# Altium footprint library 2x5.08_Terminal_Block.PcbLib: 1 footprints
Each footprint in its own frame and in the unit in brackets; x right, y up, seen from the top. Pads: shape width x height; smd on the part's side, far side on the other; paste and mask are expansions set on the pad; w line width, h text height; cw(c..) or ccw(c..) is an arc to the next point about the centre after c.
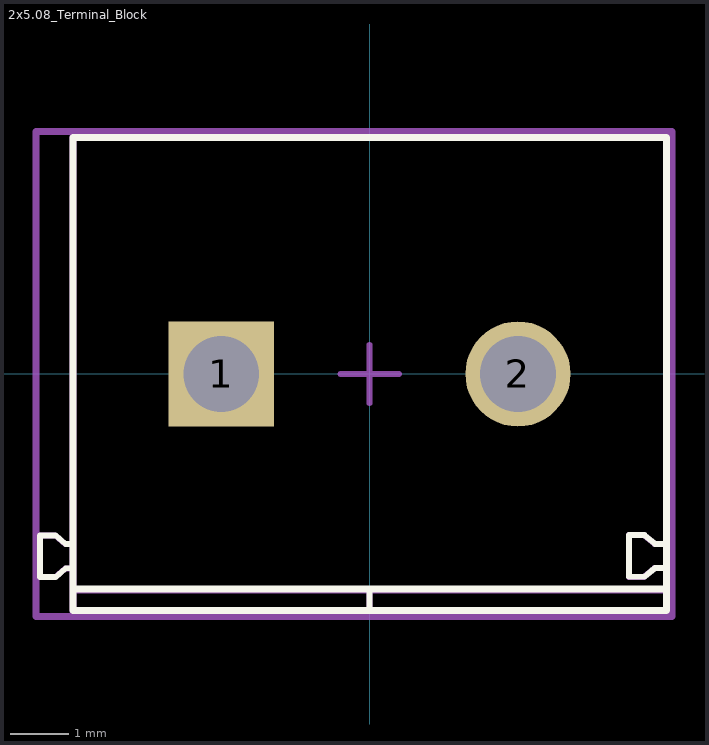
[diagram p0: the footprint, top view; thin cyan lines are the x and y axes]

## 2x5.08_Terminal_Block [mm]
pads (2):
  rect 1.8x1.8 hole 1.3: 1(-2.54,0)
  round 1.8 hole 1.3: 2(2.54,0)
Top Overlay:
  lines w0.1: -5.074,-3.327 -5.202,-3.327 -5.381,-3.476 -5.644,-3.476 -5.644,-2.763 ; -5.074,-2.913 -5.202,-2.913 -5.381,-2.762 -5.644,-2.763 ; 0,-4.05 0,-3.683 ; 5.013,-3.322 4.884,-3.322 4.706,-3.472 4.443,-3.472 4.443,-2.758 ; 5.013,-2.908 4.884,-2.908 4.706,-2.758 4.443,-2.758 ; -5.644,-2.763 -5.644,-2.763 ; 4.443,-2.758 4.443,-2.758
  lines w0.12: -5.08,-4.05 5.08,-4.05 ; -5.08,-4.05 -5.08,-3.683 5.08,-3.683 5.08,-4.05 ; -5.08,-4.05 5.08,-4.05 ; -5.08,-4.05 -5.08,4.05 5.08,4.05 5.08,-4.05
Mechanical 1:
  lines w0.1: -5.08,-3.327 -5.209,-3.327 -5.387,-3.477 -5.65,-3.477 -5.65,-2.763 ; -5.08,-2.913 -5.209,-2.913 -5.387,-2.763 -5.65,-2.763 ; 0,-4.064 0,-3.697 ; 0,-4.05 0,-3.683 ; 5.006,-3.323 4.878,-3.323 4.699,-3.473 4.436,-3.473 4.436,-2.759 ; 5.006,-2.909 4.878,-2.909 4.699,-2.759 4.436,-2.759 ; -5.65,-2.763 -5.65,-2.763 ; 4.436,-2.759 4.436,-2.759
  lines w0.12: -5.08,-4.064 -5.08,4.064 5.08,4.064 5.08,-4.064 ; -5.08,-4.064 5.08,-4.064 ; -5.08,-4.064 -5.08,-3.697 5.08,-3.697 5.08,-4.064 ; -5.08,-4.064 5.08,-4.064 ; -5.715,-4.15 5.18,-4.15 5.18,4.15 -5.715,4.15 -5.715,-4.15
  text ".Designator" at 0,0.188 h1
Mechanical 15:
  lines w0.1: -0.5,0 0.5,0 ; 0,-0.5 0,0.5
3D body "1729128.stp": height 10.01, standoff -3.49, extent -5.65,-4.05 5.08,4.05